# Altium schematic symbol library Schlib1.SchLib: 21 symbols
Pins are listed as number, name and electrical type; pins without a type are passive.

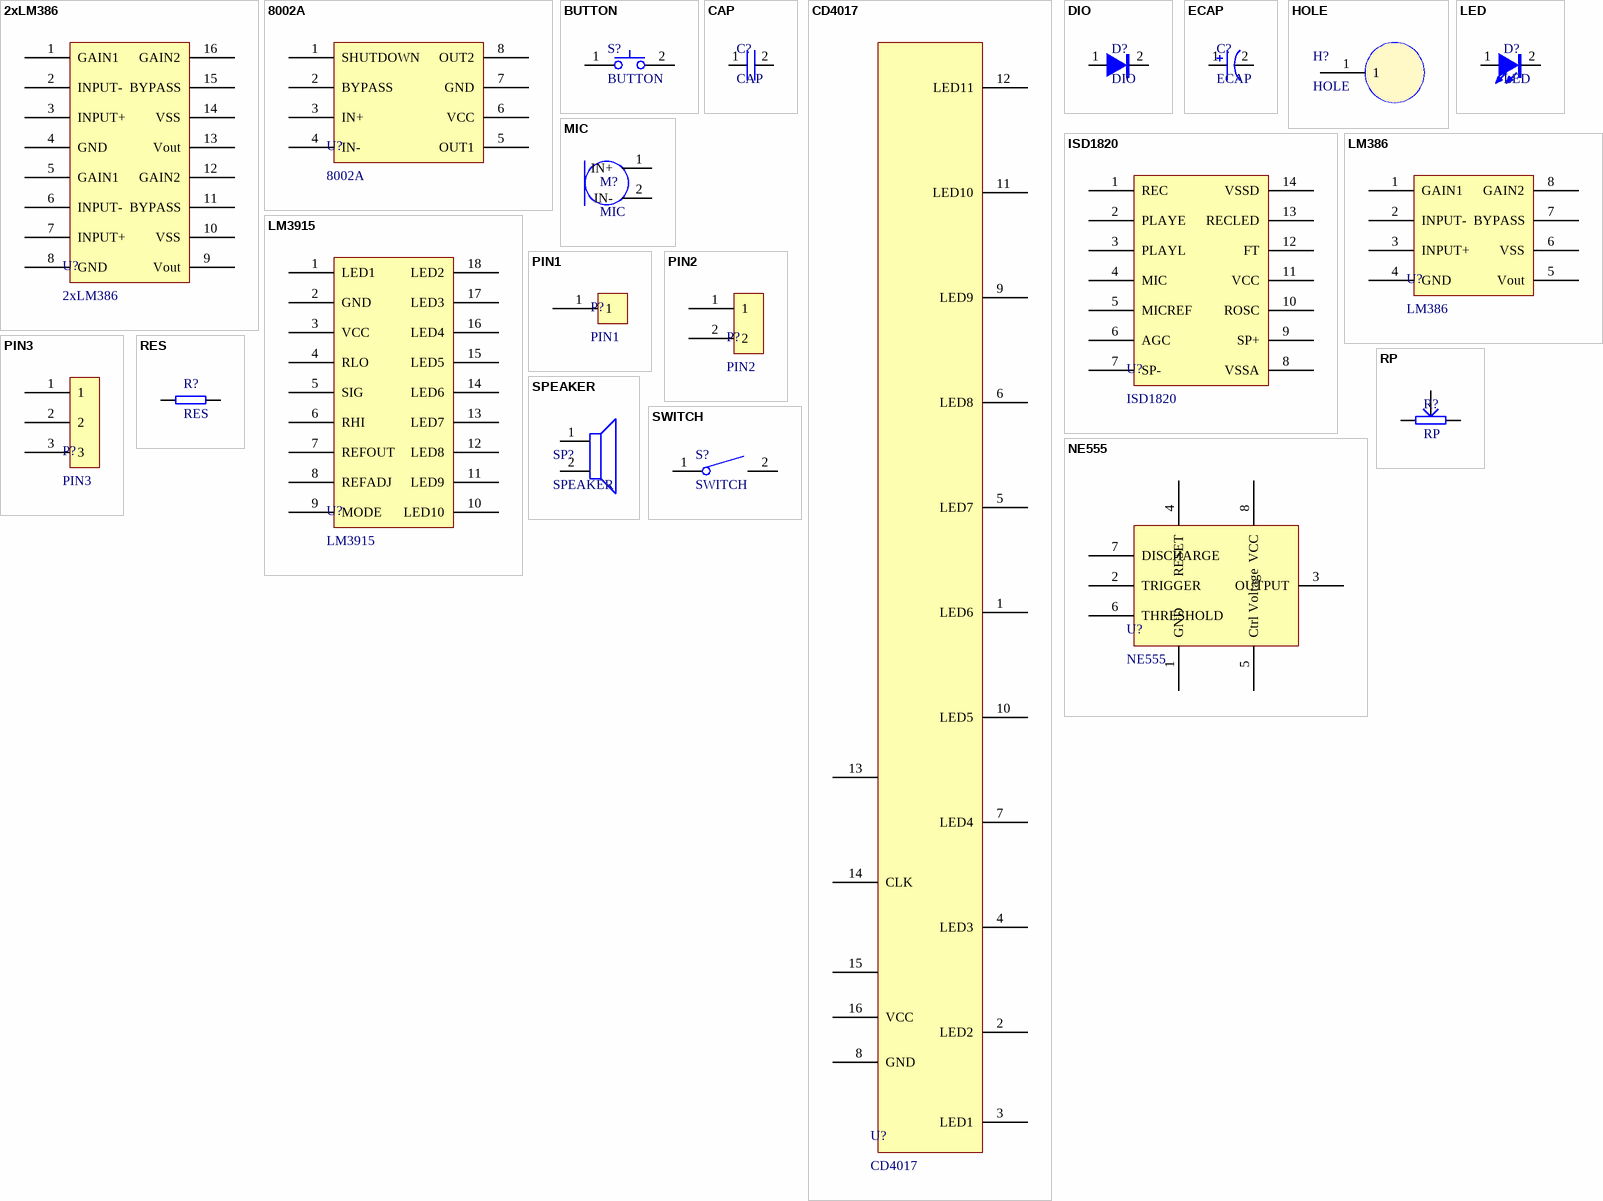
[diagram p0: symbols 2xLM386 to SWITCH]

## 2xLM386
designator U?
两个LM386
pins: 1 GAIN1, 2 INPUT-, 3 INPUT+, 4 GND, 5 GAIN1, 6 INPUT-, 7 INPUT+, 8 GND, 9 Vout, 10 VSS, 11 BYPASS, 12 GAIN2, 13 Vout, 14 VSS, 15 BYPASS, 16 GAIN2

## 8002A
designator U?
音频运放
pins: 1 SHUTDOWN, 2 BYPASS, 3 IN+, 4 IN-, 5 OUT1, 6 VCC, 7 GND, 8 OUT2

## BUTTON
designator S?
按钮
pins: 1, 2

## CAP
designator C?
电容_普通
pins: 1, 2

## CD4017
designator U?
pins: 1 LED6, 2 LED2, 3 LED1, 4 LED3, 5 LED7, 6 LED8, 7 LED4, 8 GND, 9 LED9, 10 LED5, 11 LED10, 12 LED11, 13, 14 CLK, 15, 16 VCC

## DIO
designator D?
二极管_普通
pins: 1, 2

## ECAP
designator C?
电容_极性
pins: 1 +, 2 -

## HOLE
designator H?
钥匙扣
pins: 1

## ISD1820
designator U?
语音IC
pins: 1 REC, 2 PLAYE, 3 PLAYL, 4 MIC, 5 MICREF, 6 AGC, 7 SP-, 8 VSSA, 9 SP+, 10 ROSC, 11 VCC, 12 FT, 13 RECLED, 14 VSSD

## LED
designator D?
二极管_发光
pins: 1, 2

## LM386
designator U?
音频运放
pins: 1 GAIN1, 2 INPUT-, 3 INPUT+, 4 GND, 5 Vout, 6 VSS, 7 BYPASS, 8 GAIN2

## LM3915
designator U?
LED驱动IC
pins: 1 LED1, 2 GND, 3 VCC, 4 RLO, 5 SIG, 6 RHI, 7 REFOUT, 8 REFADJ, 9 MODE, 10 LED10, 11 LED9, 12 LED8, 13 LED7, 14 LED6, 15 LED5, 16 LED4, 17 LED3, 18 LED2

## MIC
designator M?
麦克风
pins: 1 IN+, 2 IN-

## NE555
designator U?
pins: 1 GND, 2 TRIGGER, 3 OUTPUT, 4 RESET, 5 Ctrl Voltage, 6 THRESHOLD, 7 DISCHARGE, 8 VCC

## PIN1
designator P?
1Pin插针
pins: 1

## PIN2
designator P?
2Pin插针
pins: 1, 2

## PIN3
designator P?
3Pin插针
pins: 1, 2, 3

## RES
designator R?
电阻
pins: 1, 2

## RP
designator R?
电位器
pins: 1, 2, 3

## SPEAKER
designator SP?
喇叭
pins: 1, 2

## SWITCH
designator S?
开关
pins: 1, 2